# Altium schematic symbol library PR20204VBNN 4 Pin Male Header Pin 2.54mm.SchLib: 1 symbol
Pins are listed as number, name and electrical type; pins without a type are passive.

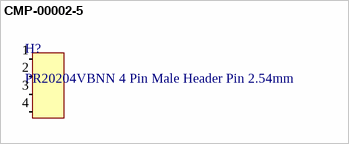
[diagram p0: symbol CMP-00002-5]

## CMP-00002-5
designator H?, comment PR20204VBNN 4 Pin Male Header Pin 2.54mm
PR20204VBNN 4 Pin Male Header Pin 2.54mm General Use; ComponentLink1URL: https://www.digikey.com/en/products/detail/metz-connect-usa-inc/PR20204VBNN/12342903?s=N4IgTCBcDaIIwA4AsBOADgJzABh0gbgEYB2xIAugL5A; ComponentLink1Description: Supplier
footprint PR20204VBNN 4 Pin Male Header Pin 2.54mm-Footprint-1
pins: 1 X (power), 2 X (power), 3 X (power), 4 X (power)